# Altium footprint library SnapEDApcb.PcbLib: 1 footprints
Each footprint in its own frame and in the unit in brackets; x right, y up, seen from the top. Pads: shape width x height; smd on the part's side, far side on the other; paste and mask are expansions set on the pad; w line width, h text height; cw(c..) or ccw(c..) is an arc to the next point about the centre after c.
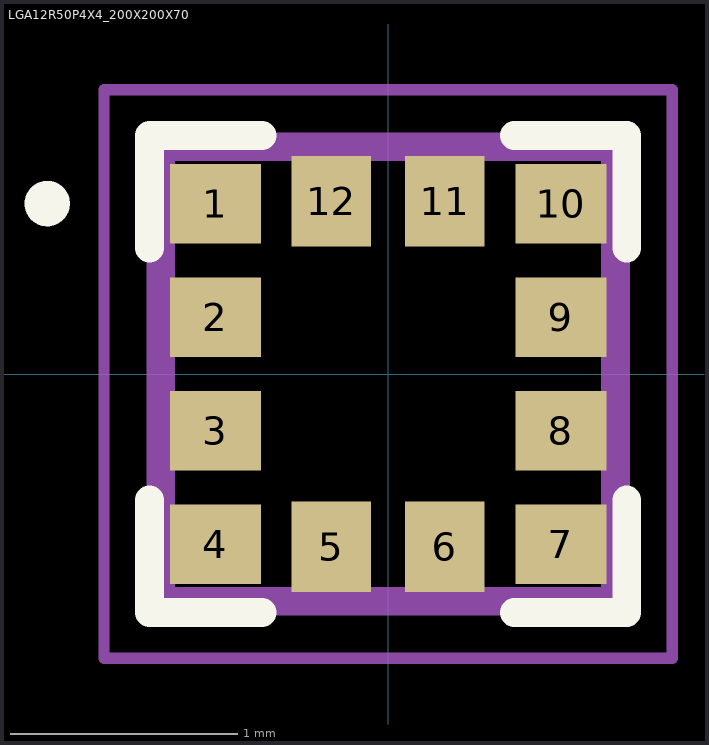
[diagram p0: the footprint, top view; thin cyan lines are the x and y axes]

## LGA12R50P4X4_200X200X70 [mm]
pads (12):
  rect 0.4x0.35 smd: 1(-0.76,0.75) 2(-0.76,0.25) 3(-0.76,-0.25) 4(-0.76,-0.75) 7(0.76,-0.75) 8(0.76,-0.25) 9(0.76,0.25) 10(0.76,0.75)
  rect 0.35x0.4 smd: 5(-0.25,-0.76) 6(0.25,-0.76) 11(0.25,0.76) 12(-0.25,0.76)
Top Overlay:
  circle w0.1: c-1.5,0.75 r0.05
  lines w0.127: -1.05,-0.555 -1.05,-1.05 -0.555,-1.05 ; -1.05,0.555 -1.05,1.05 -0.555,1.05 ; 0.555,-1.05 1.05,-1.05 1.05,-0.555 ; 0.555,1.05 1.05,1.05 1.05,0.555
Mechanical 13:
  circle w0.1: c-0.75,0.75 r0.05
  lines w0.127: -1,-1 1,-1 1,1 -1,1 -1,-1
Mechanical 15:
  lines w0.05: -1.25,-1.25 1.25,-1.25 1.25,1.25 -1.25,1.25 -1.25,-1.25